# Altium footprint library SuperBot_PcbLib1.PcbLib: 44 footprints (part 2 of 3)
Each footprint in its own frame and in the unit in brackets; x right, y up, seen from the top. Pads: shape width x height; smd on the part's side, far side on the other; paste and mask are expansions set on the pad; w line width, h text height; cw(c..) or ccw(c..) is an arc to the next point about the centre after c.
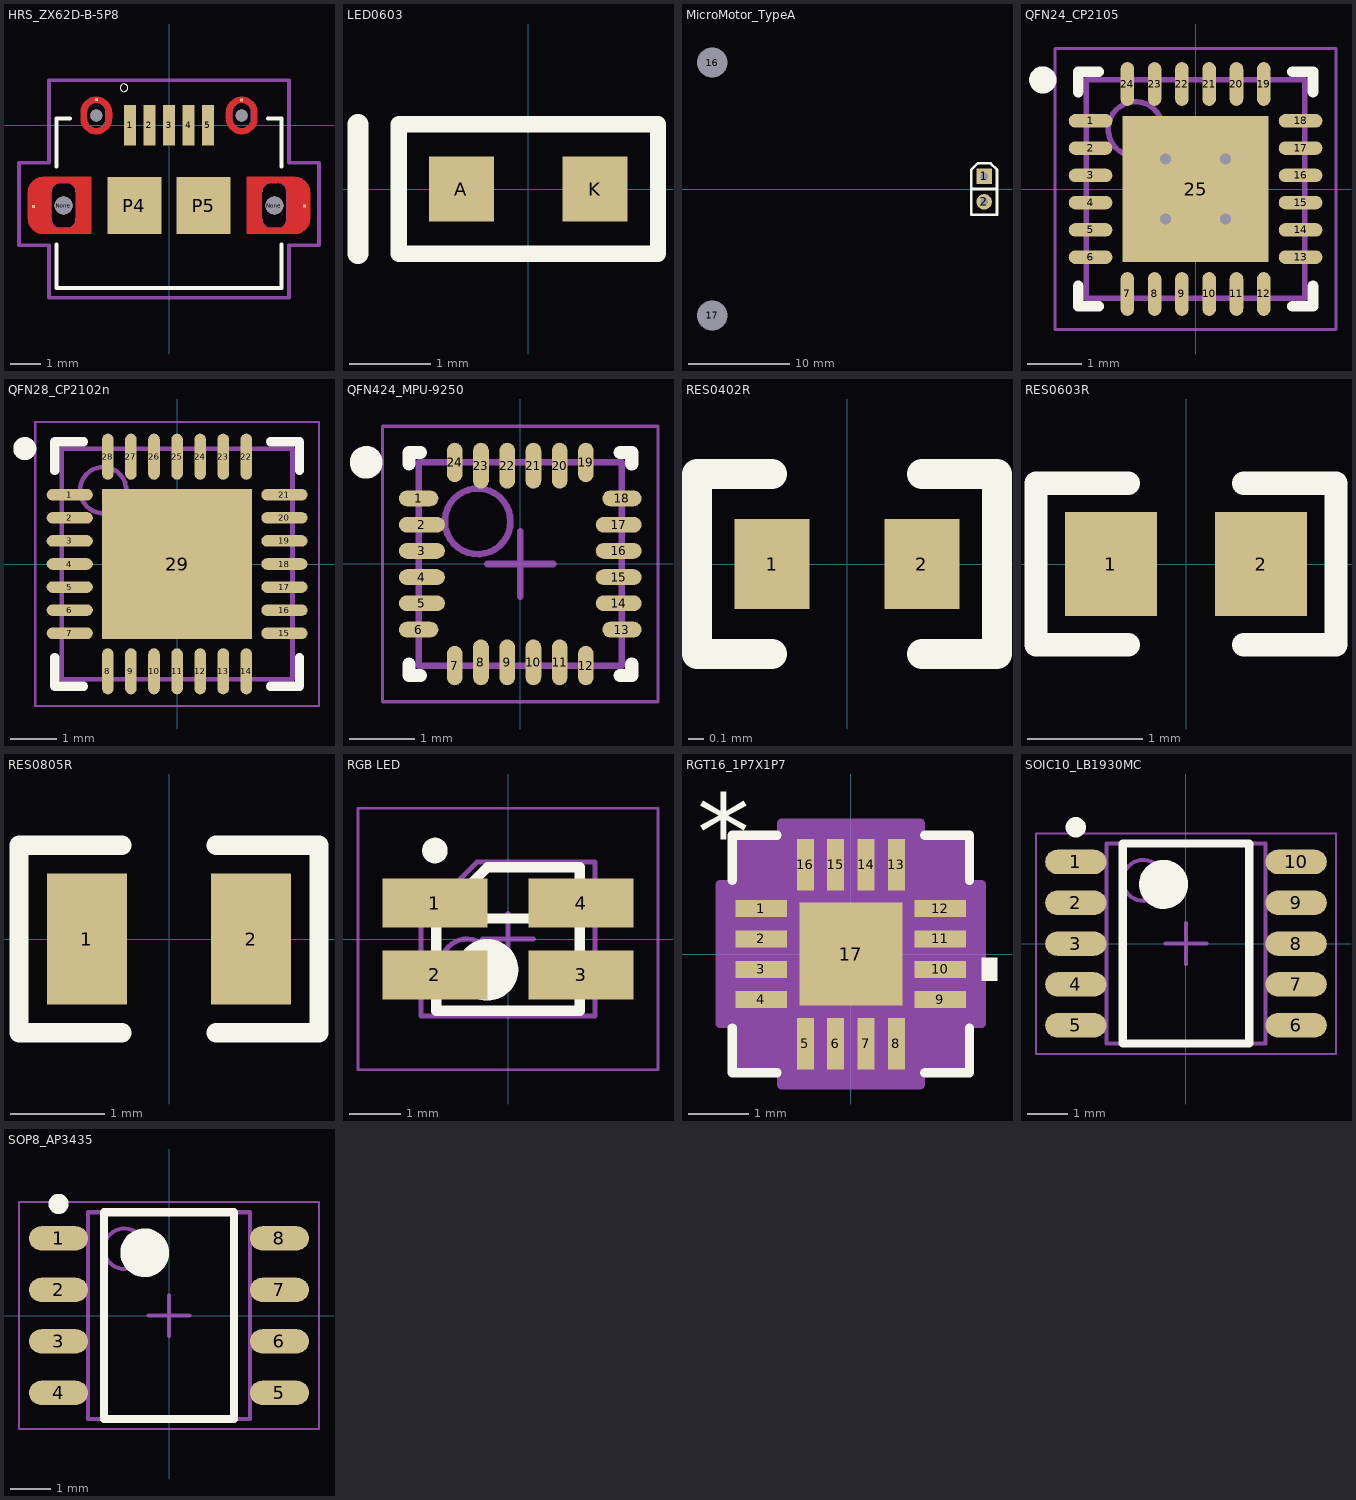
[diagram p1: the footprints below, top view; thin cyan lines are the x and y axes]

## HRS_ZX62D-B-5P8 [mm]
pads (15):
  rect 0.4x1.35 smd: 1(-1.3,0) 2(-0.65,0) 3(0,0) 4(0.65,0) 5(1.3,0)
  round 0.6 hole 0.6 unplated: None(-3.512,-2.675) None(3.512,-2.675)
  round 0.4 hole 0.4 unplated: None(-2.425,0.325) None(2.425,0.325)
  rect 0.1x0.1 smd: P1(-2.425,0.85) P2(2.425,0.837) P3(-4.513,-2.712) P6(4.513,-2.688)
  rect 1.8x1.9 smd: P4(-1.15,-2.675) P5(1.15,-2.675)
Top Layer:
  region: 3.1,-2.675 2.6,-2.675 2.6,-1.725 4.2,-1.725 4.213,-1.725 4.239,-1.726 4.265,-1.729 4.291,-1.733 4.317,-1.739 4.342,-1.745 4.367,-1.754 4.391,-1.763 4.415,-1.774 4.439,-1.785 4.461,-1.799 4.483,-1.813 4.504,-1.828 4.525,-1.845 4.544,-1.862 4.563,-1.881 4.58,-1.9 4.597,-1.921 4.612,-1.942 4.626,-1.964 4.64,-1.986 4.651,-2.01 4.662,-2.034 4.671,-2.058 4.68,-2.083 4.686,-2.108 4.692,-2.134 4.696,-2.16 4.699,-2.186 4.7,-2.212 4.7,-2.225 4.7,-2.675 3.925,-2.675 3.925,-2.2 3.925,-2.193 3.924,-2.178 3.923,-2.164 3.92,-2.15 3.917,-2.136 3.914,-2.122 3.909,-2.108 3.904,-2.095 3.898,-2.082 3.892,-2.069 3.885,-2.056 3.877,-2.044 3.868,-2.033 3.859,-2.021 3.85,-2.011 3.839,-2 3.829,-1.991 3.817,-1.982 3.806,-1.973 3.794,-1.965 3.781,-1.958 3.768,-1.952 3.755,-1.946 3.742,-1.941 3.728,-1.936 3.714,-1.933 3.7,-1.93 3.686,-1.927 3.672,-1.926 3.657,-1.925 3.65,-1.925 3.4,-1.925 3.392,-1.925 3.376,-1.926 3.361,-1.927 3.345,-1.93 3.33,-1.933 3.315,-1.937 3.3,-1.942 3.285,-1.948 3.271,-1.954 3.257,-1.961 3.243,-1.969 3.23,-1.978 3.217,-1.987 3.205,-1.997 3.193,-2.007 3.182,-2.018 3.172,-2.03 3.162,-2.042 3.153,-2.055 3.144,-2.068 3.136,-2.082 3.129,-2.096 3.123,-2.11 3.117,-2.125 3.112,-2.14 3.108,-2.155 3.105,-2.17 3.102,-2.186 3.101,-2.201 3.1,-2.217 3.1,-2.225
  region: -3.1,-2.675 -2.6,-2.675 -2.6,-3.625 -4.2,-3.625 -4.213,-3.625 -4.239,-3.624 -4.265,-3.621 -4.291,-3.617 -4.317,-3.611 -4.342,-3.605 -4.367,-3.596 -4.391,-3.587 -4.415,-3.576 -4.439,-3.565 -4.461,-3.551 -4.483,-3.537 -4.504,-3.522 -4.525,-3.505 -4.544,-3.488 -4.563,-3.469 -4.58,-3.45 -4.597,-3.429 -4.612,-3.408 -4.626,-3.386 -4.64,-3.364 -4.651,-3.34 -4.662,-3.316 -4.671,-3.292 -4.68,-3.267 -4.686,-3.242 -4.692,-3.216 -4.696,-3.19 -4.699,-3.164 -4.7,-3.138 -4.7,-3.125 -4.7,-2.675 -3.925,-2.675 -3.925,-3.15 -3.925,-3.157 -3.924,-3.172 -3.923,-3.186 -3.92,-3.2 -3.917,-3.214 -3.914,-3.228 -3.909,-3.242 -3.904,-3.255 -3.898,-3.268 -3.892,-3.281 -3.885,-3.294 -3.877,-3.306 -3.868,-3.317 -3.859,-3.329 -3.85,-3.339 -3.839,-3.35 -3.829,-3.359 -3.817,-3.368 -3.806,-3.377 -3.794,-3.385 -3.781,-3.392 -3.768,-3.398 -3.755,-3.404 -3.742,-3.409 -3.728,-3.414 -3.714,-3.417 -3.7,-3.42 -3.686,-3.423 -3.672,-3.424 -3.657,-3.425 -3.65,-3.425 -3.4,-3.425 -3.392,-3.425 -3.376,-3.424 -3.361,-3.423 -3.345,-3.42 -3.33,-3.417 -3.315,-3.413 -3.3,-3.408 -3.285,-3.402 -3.271,-3.396 -3.257,-3.389 -3.243,-3.381 -3.23,-3.372 -3.217,-3.363 -3.205,-3.353 -3.193,-3.343 -3.182,-3.332 -3.172,-3.32 -3.162,-3.308 -3.153,-3.295 -3.144,-3.282 -3.136,-3.268 -3.129,-3.254 -3.123,-3.24 -3.117,-3.225 -3.112,-3.21 -3.108,-3.195 -3.105,-3.18 -3.102,-3.164 -3.101,-3.149 -3.1,-3.133 -3.1,-3.125
  region: 2.6,-3.625 4.2,-3.625 4.213,-3.625 4.239,-3.624 4.265,-3.621 4.291,-3.617 4.317,-3.611 4.342,-3.605 4.367,-3.596 4.391,-3.587 4.415,-3.576 4.439,-3.565 4.461,-3.551 4.483,-3.537 4.504,-3.522 4.525,-3.505 4.544,-3.488 4.563,-3.469 4.58,-3.45 4.597,-3.429 4.612,-3.408 4.626,-3.386 4.64,-3.364 4.651,-3.34 4.662,-3.316 4.671,-3.292 4.68,-3.267 4.686,-3.242 4.692,-3.216 4.696,-3.19 4.699,-3.164 4.7,-3.138 4.7,-3.125 4.7,-2.675 3.925,-2.675 3.925,-3.125 3.925,-3.133 3.924,-3.149 3.923,-3.164 3.92,-3.18 3.917,-3.195 3.913,-3.21 3.908,-3.225 3.902,-3.24 3.896,-3.254 3.889,-3.268 3.881,-3.282 3.872,-3.295 3.863,-3.308 3.853,-3.32 3.843,-3.332 3.832,-3.343 3.82,-3.353 3.808,-3.363 3.795,-3.372 3.782,-3.381 3.768,-3.389 3.754,-3.396 3.74,-3.402 3.725,-3.408 3.71,-3.413 3.695,-3.417 3.68,-3.42 3.664,-3.423 3.649,-3.424 3.633,-3.425 3.625,-3.425 3.4,-3.425 3.392,-3.425 3.376,-3.424 3.361,-3.423 3.345,-3.42 3.33,-3.417 3.315,-3.413 3.3,-3.408 3.285,-3.402 3.271,-3.396 3.257,-3.389 3.243,-3.381 3.23,-3.372 3.217,-3.363 3.205,-3.353 3.193,-3.343 3.182,-3.332 3.172,-3.32 3.162,-3.308 3.153,-3.295 3.144,-3.282 3.136,-3.268 3.129,-3.254 3.123,-3.24 3.117,-3.225 3.112,-3.21 3.108,-3.195 3.105,-3.18 3.102,-3.164 3.101,-3.149 3.1,-3.133 3.1,-3.125 3.1,-2.675 2.6,-2.675
  region: -2.6,-1.725 -4.2,-1.725 -4.213,-1.725 -4.239,-1.726 -4.265,-1.729 -4.291,-1.733 -4.317,-1.739 -4.342,-1.745 -4.367,-1.754 -4.391,-1.763 -4.415,-1.774 -4.439,-1.785 -4.461,-1.799 -4.483,-1.813 -4.504,-1.828 -4.525,-1.845 -4.544,-1.862 -4.563,-1.881 -4.58,-1.9 -4.597,-1.921 -4.612,-1.942 -4.626,-1.964 -4.64,-1.986 -4.651,-2.01 -4.662,-2.034 -4.671,-2.058 -4.68,-2.083 -4.686,-2.108 -4.692,-2.134 -4.696,-2.16 -4.699,-2.186 -4.7,-2.212 -4.7,-2.225 -4.7,-2.675 -3.925,-2.675 -3.925,-2.225 -3.925,-2.217 -3.924,-2.201 -3.923,-2.186 -3.92,-2.17 -3.917,-2.155 -3.913,-2.14 -3.908,-2.125 -3.902,-2.11 -3.896,-2.096 -3.889,-2.082 -3.881,-2.068 -3.872,-2.055 -3.863,-2.042 -3.853,-2.03 -3.843,-2.018 -3.832,-2.007 -3.82,-1.997 -3.808,-1.987 -3.795,-1.978 -3.782,-1.969 -3.768,-1.961 -3.754,-1.954 -3.74,-1.948 -3.725,-1.942 -3.71,-1.937 -3.695,-1.933 -3.68,-1.93 -3.664,-1.927 -3.649,-1.926 -3.633,-1.925 -3.625,-1.925 -3.4,-1.925 -3.392,-1.925 -3.376,-1.926 -3.361,-1.927 -3.345,-1.93 -3.33,-1.933 -3.315,-1.937 -3.3,-1.942 -3.285,-1.948 -3.271,-1.954 -3.257,-1.961 -3.243,-1.969 -3.23,-1.978 -3.217,-1.987 -3.205,-1.997 -3.193,-2.007 -3.182,-2.018 -3.172,-2.03 -3.162,-2.042 -3.153,-2.055 -3.144,-2.068 -3.136,-2.082 -3.129,-2.096 -3.123,-2.11 -3.117,-2.125 -3.112,-2.14 -3.108,-2.155 -3.105,-2.17 -3.102,-2.186 -3.101,-2.201 -3.1,-2.217 -3.1,-2.225 -3.1,-2.675 -2.6,-2.675
  region: 2.425,-0.1 2.425,-0.3 2.411,-0.3 2.384,-0.299 2.356,-0.296 2.329,-0.291 2.302,-0.286 2.276,-0.279 2.25,-0.27 2.224,-0.26 2.199,-0.249 2.174,-0.237 2.151,-0.223 2.128,-0.208 2.105,-0.192 2.084,-0.174 2.063,-0.156 2.044,-0.137 2.026,-0.116 2.008,-0.095 1.992,-0.072 1.977,-0.049 1.963,-0.026 1.951,-0.001 1.94,0.024 1.93,0.05 1.921,0.076 1.914,0.102 1.909,0.129 1.904,0.156 1.901,0.184 1.9,0.211 1.9,0.225 1.9,0.425 1.9,0.439 1.901,0.466 1.904,0.494 1.909,0.521 1.914,0.548 1.921,0.574 1.93,0.6 1.94,0.626 1.951,0.651 1.963,0.676 1.977,0.699 1.992,0.722 2.008,0.745 2.026,0.766 2.044,0.787 2.063,0.806 2.084,0.824 2.105,0.842 2.128,0.858 2.151,0.873 2.174,0.887 2.199,0.899 2.224,0.91 2.25,0.92 2.276,0.929 2.302,0.936 2.329,0.941 2.356,0.946 2.384,0.949 2.411,0.95 2.425,0.95 2.425,0.75 2.416,0.75 2.399,0.749 2.383,0.747 2.366,0.745 2.349,0.741 2.333,0.737 2.316,0.731 2.301,0.725 2.285,0.718 2.27,0.711 2.255,0.702 2.241,0.693 2.227,0.683 2.214,0.672 2.201,0.661 2.189,0.649 2.178,0.636 2.167,0.623 2.157,0.609 2.148,0.595 2.139,0.58 2.132,0.565 2.125,0.549 2.119,0.534 2.113,0.517 2.109,0.501 2.105,0.484 2.103,0.467 2.101,0.451 2.1,0.434 2.1,0.425 2.1,0.225 2.1,0.216 2.101,0.199 2.103,0.183 2.105,0.166 2.109,0.149 2.113,0.133 2.119,0.116 2.125,0.101 2.132,0.085 2.139,0.07 2.148,0.055 2.157,0.041 2.167,0.027 2.178,0.014 2.189,0.001 2.201,-0.011 2.214,-0.022 2.227,-0.033 2.241,-0.043 2.255,-0.052 2.27,-0.061 2.285,-0.068 2.301,-0.075 2.316,-0.081 2.333,-0.087 2.349,-0.091 2.366,-0.095 2.383,-0.097 2.399,-0.099 2.416,-0.1
  region: 2.425,0.75 2.425,0.95 2.439,0.95 2.466,0.949 2.494,0.946 2.521,0.941 2.548,0.936 2.574,0.929 2.6,0.92 2.626,0.91 2.651,0.899 2.676,0.887 2.699,0.873 2.722,0.858 2.745,0.842 2.766,0.824 2.787,0.806 2.806,0.787 2.824,0.766 2.842,0.745 2.858,0.722 2.873,0.699 2.887,0.676 2.899,0.651 2.91,0.626 2.92,0.6 2.929,0.574 2.936,0.548 2.941,0.521 2.946,0.494 2.949,0.466 2.95,0.439 2.95,0.425 2.95,0.225 2.95,0.211 2.949,0.184 2.946,0.156 2.941,0.129 2.936,0.102 2.929,0.076 2.92,0.05 2.91,0.024 2.899,-0.001 2.887,-0.026 2.873,-0.049 2.858,-0.072 2.842,-0.095 2.824,-0.116 2.806,-0.137 2.787,-0.156 2.766,-0.174 2.745,-0.192 2.722,-0.208 2.699,-0.223 2.676,-0.237 2.651,-0.249 2.626,-0.26 2.6,-0.27 2.574,-0.279 2.548,-0.286 2.521,-0.291 2.494,-0.296 2.466,-0.299 2.439,-0.3 2.425,-0.3 2.425,-0.1 2.434,-0.1 2.451,-0.099 2.467,-0.097 2.484,-0.095 2.501,-0.091 2.517,-0.087 2.534,-0.081 2.549,-0.075 2.565,-0.068 2.58,-0.061 2.595,-0.052 2.609,-0.043 2.623,-0.033 2.636,-0.022 2.649,-0.011 2.661,0.001 2.672,0.014 2.683,0.027 2.693,0.041 2.702,0.055 2.711,0.07 2.718,0.085 2.725,0.101 2.731,0.116 2.737,0.133 2.741,0.149 2.745,0.166 2.747,0.183 2.749,0.199 2.75,0.216 2.75,0.225 2.75,0.425 2.75,0.434 2.749,0.451 2.747,0.467 2.745,0.484 2.741,0.501 2.737,0.517 2.731,0.534 2.725,0.549 2.718,0.565 2.711,0.58 2.702,0.595 2.693,0.609 2.683,0.623 2.672,0.636 2.661,0.649 2.649,0.661 2.636,0.672 2.623,0.683 2.609,0.693 2.595,0.702 2.58,0.711 2.565,0.718 2.549,0.725 2.534,0.731 2.517,0.737 2.501,0.741 2.484,0.745 2.467,0.747 2.451,0.749 2.434,0.75
  region: -2.425,-0.1 -2.425,-0.3 -2.439,-0.3 -2.466,-0.299 -2.494,-0.296 -2.521,-0.291 -2.548,-0.286 -2.574,-0.279 -2.6,-0.27 -2.626,-0.26 -2.651,-0.249 -2.676,-0.237 -2.699,-0.223 -2.722,-0.208 -2.745,-0.192 -2.766,-0.174 -2.787,-0.156 -2.806,-0.137 -2.824,-0.116 -2.842,-0.095 -2.858,-0.072 -2.873,-0.049 -2.887,-0.026 -2.899,-0.001 -2.91,0.024 -2.92,0.05 -2.929,0.076 -2.936,0.102 -2.941,0.129 -2.946,0.156 -2.949,0.184 -2.95,0.211 -2.95,0.225 -2.95,0.425 -2.95,0.439 -2.949,0.466 -2.946,0.494 -2.941,0.521 -2.936,0.548 -2.929,0.574 -2.92,0.6 -2.91,0.626 -2.899,0.651 -2.887,0.676 -2.873,0.699 -2.858,0.722 -2.842,0.745 -2.824,0.766 -2.806,0.787 -2.787,0.806 -2.766,0.824 -2.745,0.842 -2.722,0.858 -2.699,0.873 -2.676,0.887 -2.651,0.899 -2.626,0.91 -2.6,0.92 -2.574,0.929 -2.548,0.936 -2.521,0.941 -2.494,0.946 -2.466,0.949 -2.439,0.95 -2.425,0.95 -2.425,0.75 -2.434,0.75 -2.451,0.749 -2.467,0.747 -2.484,0.745 -2.501,0.741 -2.517,0.737 -2.534,0.731 -2.549,0.725 -2.565,0.718 -2.58,0.711 -2.595,0.702 -2.609,0.693 -2.623,0.683 -2.636,0.672 -2.649,0.661 -2.661,0.649 -2.672,0.636 -2.683,0.623 -2.693,0.609 -2.702,0.595 -2.711,0.58 -2.718,0.565 -2.725,0.549 -2.731,0.534 -2.737,0.517 -2.741,0.501 -2.745,0.484 -2.747,0.467 -2.749,0.451 -2.75,0.434 -2.75,0.425 -2.75,0.225 -2.75,0.216 -2.749,0.199 -2.747,0.183 -2.745,0.166 -2.741,0.149 -2.737,0.133 -2.731,0.116 -2.725,0.101 -2.718,0.085 -2.711,0.07 -2.702,0.055 -2.693,0.041 -2.683,0.027 -2.672,0.014 -2.661,0.001 -2.649,-0.011 -2.636,-0.022 -2.623,-0.033 -2.609,-0.043 -2.595,-0.052 -2.58,-0.061 -2.565,-0.068 -2.549,-0.075 -2.534,-0.081 -2.517,-0.087 -2.501,-0.091 -2.484,-0.095 -2.467,-0.097 -2.451,-0.099 -2.434,-0.1
  region: -2.425,0.75 -2.425,0.95 -2.411,0.95 -2.384,0.949 -2.356,0.946 -2.329,0.941 -2.302,0.936 -2.276,0.929 -2.25,0.92 -2.224,0.91 -2.199,0.899 -2.174,0.887 -2.151,0.873 -2.128,0.858 -2.105,0.842 -2.084,0.824 -2.063,0.806 -2.044,0.787 -2.026,0.766 -2.008,0.745 -1.992,0.722 -1.977,0.699 -1.963,0.676 -1.951,0.651 -1.94,0.626 -1.93,0.6 -1.921,0.574 -1.914,0.548 -1.909,0.521 -1.904,0.494 -1.901,0.466 -1.9,0.439 -1.9,0.425 -1.9,0.225 -1.9,0.211 -1.901,0.184 -1.904,0.156 -1.909,0.129 -1.914,0.102 -1.921,0.076 -1.93,0.05 -1.94,0.024 -1.951,-0.001 -1.963,-0.026 -1.977,-0.049 -1.992,-0.072 -2.008,-0.095 -2.026,-0.116 -2.044,-0.137 -2.063,-0.156 -2.084,-0.174 -2.105,-0.192 -2.128,-0.208 -2.151,-0.223 -2.174,-0.237 -2.199,-0.249 -2.224,-0.26 -2.25,-0.27 -2.276,-0.279 -2.302,-0.286 -2.329,-0.291 -2.356,-0.296 -2.384,-0.299 -2.411,-0.3 -2.425,-0.3 -2.425,-0.1 -2.416,-0.1 -2.399,-0.099 -2.383,-0.097 -2.366,-0.095 -2.349,-0.091 -2.333,-0.087 -2.316,-0.081 -2.301,-0.075 -2.285,-0.068 -2.27,-0.061 -2.255,-0.052 -2.241,-0.043 -2.227,-0.033 -2.214,-0.022 -2.201,-0.011 -2.189,0.001 -2.178,0.014 -2.167,0.027 -2.157,0.041 -2.148,0.055 -2.139,0.07 -2.132,0.085 -2.125,0.101 -2.119,0.116 -2.113,0.133 -2.109,0.149 -2.105,0.166 -2.103,0.183 -2.101,0.199 -2.1,0.216 -2.1,0.225 -2.1,0.425 -2.1,0.434 -2.101,0.451 -2.103,0.467 -2.105,0.484 -2.109,0.501 -2.113,0.517 -2.119,0.534 -2.125,0.549 -2.132,0.565 -2.139,0.58 -2.148,0.595 -2.157,0.609 -2.167,0.623 -2.178,0.636 -2.189,0.649 -2.201,0.661 -2.214,0.672 -2.227,0.683 -2.241,0.693 -2.255,0.702 -2.27,0.711 -2.285,0.718 -2.301,0.725 -2.316,0.731 -2.333,0.737 -2.349,0.741 -2.366,0.745 -2.383,0.747 -2.399,0.749 -2.416,0.75
Top Overlay:
  circle w0: c-1.5,1.25 r0.127
  lines w0.127: -3.75,-3.975 -3.75,-5.425 3.75,-5.425 3.75,-3.975 ; -3.75,-1.375 -3.75,0.225 -3.3,0.225 ; 3.3,0.225 3.75,0.225 3.75,-1.375
Top Paste:
  drawing of 8 lines, arcs and shapes, not listed
Top Solder:
  region: 2.504,-1.625 4.8,-1.625 4.8,-3.73 2.504,-3.73
  region: -4.804,-1.625 -2.5,-1.625 -2.5,-3.728 -4.804,-3.728
  region: 1.804,1.05 3.05,1.05 3.05,-0.401 1.804,-0.401
  region: -3.055,1.05 -1.8,1.05 -1.8,-0.401 -3.055,-0.401
Mechanical 1:
  lines w0.01: -3.925,-3.125 ccw(c-3.625,-3.125) -3.625,-3.425 -3.4,-3.425 ccw(c-3.4,-3.125) -3.1,-3.125 -3.1,-2.225 ccw(c-3.4,-2.225) -3.4,-1.925 -3.625,-1.925 ccw(c-3.625,-2.225) -3.925,-2.225 -3.925,-3.125 ; -2.75,0.225 ccw(c-2.425,0.225) -2.425,-0.1 ccw(c-2.425,0.225) -2.1,0.225 -2.1,0.425 ccw(c-2.425,0.425) -2.425,0.75 ccw(c-2.425,0.425) -2.75,0.425 -2.75,0.225 ; 2.1,0.225 ccw(c2.425,0.225) 2.425,-0.1 ccw(c2.425,0.225) 2.75,0.225 2.75,0.425 ccw(c2.425,0.425) 2.425,0.75 ccw(c2.425,0.425) 2.1,0.425 2.1,0.225 ; 3.1,-3.125 ccw(c3.4,-3.125) 3.4,-3.425 3.625,-3.425 ccw(c3.625,-3.125) 3.925,-3.125 3.925,-2.225 ccw(c3.625,-2.225) 3.625,-1.925 3.4,-1.925 ccw(c3.4,-2.225) 3.1,-2.225 3.1,-3.125
  lines w0.127: -5,-4 -4,-4 -4,-5.75 4,-5.75 4,-4 5,-4 5,-1.25 4,-1.25 4,1.5 -4,1.5 -4,-1.25 -5,-1.25 -5,-4

## LED0603 [mm] "ROHM LED 0603 SML-D12x1 Series"
pads (2):
  rect 0.8x0.8 smd: A(-0.825,0) K(0.825,0)
Top Overlay:
  lines w0.203: -1.6,-0.8 -1.6,0.8 1.6,0.8 1.6,-0.8 -1.6,-0.8
  lines w0.254: -2.1,-0.8 -2.1,0.8
3D body: height 0.18, standoff 0, extent -0.8,-0.4 -0.6,0.4
3D body: height 0.18, standoff 0, extent 0.6,-0.4 0.8,0.4
3D body: height 0.55, standoff 0, extent -0.6,-0.4 0.6,0.4

## MicroMotor_TypeA [mil]
pads (4):
  rect 60x60 hole 30: 1(1590,50)
  round 60 hole 30: 2(1590,-50)
  round 60 hole 118.11 unplated: 16(531.5,492.13) 17(531.5,-492.13)
Top Overlay:
  lines w10: 1540,0 1640,0 ; 1640,0 1640,75 1615,100 1565,100 1540,75 1540,-100 1640,-100 1640,0
3D body: height 98.43, standoff 0, extent 1540,0 1640.01,100
3D body: height 334.65, standoff -118.11, extent 1577.31,37.23 1602.8,62.77
3D body: height 98.43, standoff 0, extent 1540,-100 1640.01,0
3D body: height 334.65, standoff -118.11, extent 1577.31,-62.77 1602.8,-37.23
3D body "Pololu - 1_250 Micro gear motor.STEP": height 433.07, standoff 39.37, extent 0.44,-237.72 1389.02,234.72
3D body: height 590.55, standoff 39.37, extent 374.02,236.22 688.98,354.33
3D body: height 590.55, standoff 39.37, extent 374.02,-393.7 688.98,-236.22
3D body: height 590.55, standoff 472.44, extent 374.02,-236.22 688.98,236.22
3D body: height 196.85, standoff 39.37, extent 374.02,354.33 688.98,610.24
3D body: height 196.85, standoff 39.37, extent 374.02,-649.61 688.98,-393.7

## PCBComponent_1 - duplicate [mm]

## PCBComponent_1 - duplicate1 [mm]

## PCBComponent_1 - duplicate2 [mm]

## QFN24_CP2105 [mm] "QFN, 24-Leads, Body 4.00x4.00mm, Pitch 0.50mm, Thermal Pad 2.68x2.68mm, IPC Medium Density"
height 0.8
pads (25):
  oval 0.8x0.25 smd: 1(-1.925,1.25) 2(-1.925,0.75) 3(-1.925,0.25) 4(-1.925,-0.25) 5(-1.925,-0.75) 6(-1.925,-1.25) 13(1.925,-1.25) 14(1.925,-0.75) 15(1.925,-0.25) 16(1.925,0.25) 17(1.925,0.75) 18(1.925,1.25)
  oval 0.25x0.8 smd: 7(-1.25,-1.925) 8(-0.75,-1.925) 9(-0.25,-1.925) 10(0.25,-1.925) 11(0.75,-1.925) 12(1.25,-1.925) 19(1.25,1.925) 20(0.75,1.925) 21(0.25,1.925) 22(-0.25,1.925) 23(-0.75,1.925) 24(-1.25,1.925)
  rect 2.68x2.68 smd: 25(0,0)
via -0.55,0.55 diameter 0.5 hole 0.2
via 0.55,0.55 diameter 0.5 hole 0.2
via -0.55,-0.55 diameter 0.5 hole 0.2
via 0.55,-0.55 diameter 0.5 hole 0.2
Top Overlay:
  circle w0.25: c-2.8,2 r0.125
  lines w0.2: -2.15,-1.775 -2.15,-2.15 -1.775,-2.15 ; -2.15,1.775 -2.15,2.15 -1.775,2.15 ; 1.775,-2.15 2.15,-2.15 2.15,-1.775 ; 1.775,2.15 2.15,2.15 2.15,1.775
Mechanical 13:
  circle w0.1: c-1.1,1.1 r0.5
  lines w0.1: -2,-2 -2,2 2,2 2,-2 -2,-2
Mechanical 15:
  lines w0.05: -2.575,-2.575 -2.575,2.575 2.575,2.575 2.575,-2.575 -2.575,-2.575
  lines w0.1: -0.5,0 0.5,0 ; 0,-0.5 0,0.5
3D body "QFN24_CP2105.step": height 0.8, standoff 0, extent -2.02,-2.02 2.02,2.02

## QFN28_CP2102n [mm] "Medium 5mm"
height 0.8
pads (29):
  oval 1x0.25 smd: 1(-2.325,1.5) 2(-2.325,1) 3(-2.325,0.5) 4(-2.325,0) 5(-2.325,-0.5) 6(-2.325,-1) 7(-2.325,-1.5) 15(2.325,-1.5) 16(2.325,-1) 17(2.325,-0.5) 18(2.325,0) 19(2.325,0.5) 20(2.325,1) 21(2.325,1.5)
  oval 0.25x1 smd: 8(-1.5,-2.325) 9(-1,-2.325) 10(-0.5,-2.325) 11(0,-2.325) 12(0.5,-2.325) 13(1,-2.325) 14(1.5,-2.325) 22(1.5,2.325) 23(1,2.325) 24(0.5,2.325) 25(0,2.325) 26(-0.5,2.325) 27(-1,2.325) 28(-1.5,2.325)
  rect 3.25x3.25 smd: 29(0,0)
Top Overlay:
  circle w0.25: c-3.3,2.5 r0.125
  lines w0.2: -2.65,-2.025 -2.65,-2.65 -2.025,-2.65 ; -2.65,2.025 -2.65,2.65 -2.025,2.65 ; 2.025,-2.65 2.65,-2.65 2.65,-2.025 ; 2.025,2.65 2.65,2.65 2.65,2.025
Mechanical 13:
  circle w0.1: c-1.6,1.6 r0.5
  lines w0.1: -2.5,-2.5 2.5,-2.5 2.5,2.5 -2.5,2.5 -2.5,-2.5
Mechanical 15:
  lines w0.05: -3.075,-3.075 3.075,-3.075 3.075,3.075 -3.075,3.075 -3.075,-3.075
  lines w0.1: -0.5,0 0.5,0 ; 0,-0.5 0,0.5
3D body "QFN127P600-8N.step": height 0.8, standoff 0, extent -2.55,-2.55 2.55,2.55

## QFN424_MPU-9250 [mm] "QFN, 24-Leads, Body 3.00x3.00mm, Pitch 0.40mm, Thermal Pad 1.70x1.54mm, IPC Medium Density"
height 1.05
pads (24):
  oval 0.6x0.24 smd: 1(-1.55,1) 6(-1.55,-1) 13(1.55,-1) 18(1.55,1)
  oval 0.7x0.24 smd: 2(-1.5,0.6) 3(-1.5,0.2) 4(-1.5,-0.2) 5(-1.5,-0.6) 14(1.5,-0.6) 15(1.5,-0.2) 16(1.5,0.2) 17(1.5,0.6)
  oval 0.24x0.6 smd: 7(-1,-1.55) 12(1,-1.55) 19(1,1.55) 24(-1,1.55)
  oval 0.24x0.7 smd: 8(-0.6,-1.5) 9(-0.2,-1.5) 10(0.2,-1.5) 11(0.6,-1.5) 20(0.6,1.5) 21(0.2,1.5) 22(-0.2,1.5) 23(-0.6,1.5)
Top Overlay:
  circle w0.25: c-2.35,1.55 r0.125
  lines w0.2: -1.7,-1.525 -1.7,-1.7 -1.525,-1.7 ; -1.7,1.525 -1.7,1.7 -1.525,1.7 ; 1.525,-1.7 1.7,-1.7 1.7,-1.525 ; 1.525,1.7 1.7,1.7 1.7,1.525
Mechanical 13:
  circle w0.1: c-0.65,0.65 r0.5
  lines w0.1: -1.55,-1.55 -1.55,1.55 1.55,1.55 1.55,-1.55 -1.55,-1.55
Mechanical 15:
  lines w0.05: -2.1,-2.1 -2.1,2.1 2.1,2.1 2.1,-2.1 -2.1,-2.1
  lines w0.1: -0.5,0 0.5,0 ; 0,-0.5 0,0.5
3D body "QFN424_MPU-9250.step": height 1.05, standoff 0, extent -1.6,-1.6 1.6,1.6

## RES0402R [mm] "resistor 0402 reflow soldering"
pads (2):
  rect 0.5x0.6 smd: 1(-0.5,0) 2(0.5,0)
Top Overlay:
  lines w0.203: -0.5,-0.6 -1,-0.6 -1,0.6 -0.5,0.6 ; 0.5,-0.6 1,-0.6 1,0.6 0.5,0.6
3D body "RES0402.stp": height 0.3, standoff 0, extent -0.5,-0.25 0.5,0.25

## RES0603R [mm] "resistor 0603 reflow soldering"
pads (2):
  rect 0.8x0.9 smd: 1(-0.65,0) 2(0.65,0)
Top Overlay:
  lines w0.203: -0.5,-0.7 -1.3,-0.7 -1.3,0.7 -0.5,0.7 ; 0.5,-0.7 1.3,-0.7 1.3,0.7 0.5,0.7
3D body "res0603.stp": height 0.45, standoff 0, extent -0.8,-0.4 0.8,0.4

## RES0805R [mm] "resistor 0805 reflow soldering"
pads (2):
  rect 0.85x1.4 smd: 1(-0.875,0) 2(0.875,0)
Top Overlay:
  lines w0.203: -0.5,-1 -1.6,-1 -1.6,1 -0.5,1 ; 0.5,-1 1.6,-1 1.6,1 0.5,1
3D body "RES0805.stp": height 0.5, standoff 0, extent -1,-0.625 1,0.625

## RGB LED [mm] "Leaded Chip Carrier, 6-Leads, Body 3.55x2.80mm, Pitch 1.400mm, IPC Low Density"
height 2.1
pads (4):
  rect 2.05x0.95 smd: 1(-1.425,0.7) 2(-1.425,-0.7) 3(1.425,-0.7) 4(1.425,0.7)
Top Overlay:
  circle w0.25: c-1.425,1.725 r0.125
  circle w0.6: c-0.4,-0.6 r0.3
  lines w0.2: 1.4,0.4 -1.4,0.4 ; -1.4,0.4 -0.4,1.4 1.4,1.4 1.4,-1.4 -1.4,-1.4 -1.4,0.4
Mechanical 13:
  circle w0.1: c-0.8,-0.5 r0.5
  lines w0.1: 1.7,0.4 -1.7,0.4 ; -1.7,0.4 -1.7,-1.5 1.7,-1.5 1.7,1.5 -0.6,1.5 -1.7,0.4
Mechanical 15:
  lines w0.05: -2.925,-2.55 -2.925,2.55 2.925,2.55 2.925,-2.55 -2.925,-2.55
  lines w0.1: -0.5,0 0.5,0 ; 0,-0.5 0,0.5
3D body: height 2.1, standoff 1, extent -1.7,-1.5 1.7,1.5

## RGT16_1P7X1P7 [mm]
pads (17):
  rect 0.85x0.28 smd paste-0.14 mask+0: 1(-1.475,0.75) 2(-1.475,0.25) 3(-1.475,-0.25) 4(-1.475,-0.75) 9(1.475,-0.75) 10(1.475,-0.25) 11(1.475,0.25) 12(1.475,0.75)
  rect 0.28x0.85 smd paste-0.14 mask+0: 5(-0.75,-1.475) 6(-0.25,-1.475) 7(0.25,-1.475) 8(0.75,-1.475) 13(0.75,1.475) 14(0.25,1.475) 15(-0.25,1.475) 16(-0.75,1.475)
  rect 1.7x1.7 smd paste-0.837 mask-0.838: 17(0,0)
Top Overlay:
  region: 2.154,-0.059 2.408,-0.059 2.408,-0.44 2.154,-0.44
  lines w0.152: -1.956,-1.218 -1.956,-1.956 -1.218,-1.956 ; -1.956,1.218 -1.956,1.956 -1.218,1.956 ; 1.218,-1.956 1.956,-1.956 1.956,-1.218 ; 1.218,1.956 1.956,1.956 1.956,1.218
  text "*" at -2.535,1.381 h1.27
Top Paste:
  region: -1.075,0.865 -1.875,0.865 -1.875,0.635 -1.075,0.635
  region: -1.075,0.365 -1.875,0.365 -1.875,0.135 -1.075,0.135
  region: -1.075,-0.135 -1.875,-0.135 -1.875,-0.365 -1.075,-0.365
  region: -1.075,-0.635 -1.875,-0.635 -1.875,-0.865 -1.075,-0.865
  region: -0.635,-1.075 -0.865,-1.075 -0.865,-1.875 -0.635,-1.875
  region: -0.135,-1.075 -0.365,-1.075 -0.365,-1.875 -0.135,-1.875
  region: 0.365,-1.075 0.135,-1.075 0.135,-1.875 0.365,-1.875
  region: 0.865,-1.075 0.635,-1.075 0.635,-1.875 0.865,-1.875
  region: 1.875,-0.635 1.075,-0.635 1.075,-0.865 1.875,-0.865
  region: 1.875,-0.135 1.075,-0.135 1.075,-0.365 1.875,-0.365
  region: 1.875,0.365 1.075,0.365 1.075,0.135 1.875,0.135
  region: 1.875,0.865 1.075,0.865 1.075,0.635 1.875,0.635
  region: 0.865,1.875 0.635,1.875 0.635,1.075 0.865,1.075
  region: 0.365,1.875 0.135,1.875 0.135,1.075 0.365,1.075
  region: -0.135,1.875 -0.365,1.875 -0.365,1.075 -0.135,1.075
  region: -0.635,1.875 -0.865,1.875 -0.865,1.075 -0.635,1.075
  region: -0.494,0.775 -0.775,0.775 -0.775,0.494 -0.635,0.494 -0.494,0.635
  region: -0.635,0.294 -0.775,0.294 -0.775,-0.294 -0.635,-0.294 -0.494,-0.152 -0.494,0.152
  region: -0.635,-0.494 -0.775,-0.494 -0.775,-0.775 -0.494,-0.775 -0.494,-0.635
  region: 0.294,0.775 -0.294,0.775 -0.294,0.635 -0.152,0.494 0.152,0.494 0.294,0.635
  region: 0.152,0.294 -0.152,0.294 -0.294,0.152 -0.294,-0.152 -0.152,-0.294 0.152,-0.294 0.294,-0.152 0.294,0.152
  region: 0.152,-0.494 -0.152,-0.494 -0.294,-0.635 -0.294,-0.775 0.294,-0.775 0.294,-0.635
  region: 0.775,0.775 0.494,0.775 0.494,0.635 0.635,0.494 0.775,0.494
  region: 0.775,0.294 0.635,0.294 0.494,0.152 0.494,-0.152 0.635,-0.294 0.775,-0.294
  region: 0.775,-0.494 0.635,-0.494 0.494,-0.635 0.494,-0.775 0.775,-0.775
Top Solder:
  region: -0.98,0.96 -1.97,0.96 -1.97,0.54 -0.98,0.54
  region: -0.98,0.46 -1.97,0.46 -1.97,0.04 -0.98,0.04
  region: -0.98,-0.04 -1.97,-0.04 -1.97,-0.46 -0.98,-0.46
  region: -0.98,-0.54 -1.97,-0.54 -1.97,-0.96 -0.98,-0.96
  region: -0.541,-0.98 -0.96,-0.98 -0.96,-1.97 -0.541,-1.97
  region: -0.04,-0.98 -0.46,-0.98 -0.46,-1.97 -0.04,-1.97
  region: 0.46,-0.98 0.04,-0.98 0.04,-1.97 0.46,-1.97
  region: 0.96,-0.98 0.541,-0.98 0.541,-1.97 0.96,-1.97
  region: 1.97,-0.54 0.98,-0.54 0.98,-0.96 1.97,-0.96
  region: 1.97,-0.04 0.98,-0.04 0.98,-0.46 1.97,-0.46
  region: 1.97,0.46 0.98,0.46 0.98,0.04 1.97,0.04
  region: 1.97,0.96 0.98,0.96 0.98,0.54 1.97,0.54
  region: 0.96,1.97 0.541,1.97 0.541,0.98 0.96,0.98
  region: 0.46,1.97 0.04,1.97 0.04,0.98 0.46,0.98
  region: -0.04,1.97 -0.46,1.97 -0.46,0.98 -0.04,0.98
  region: -0.541,1.97 -0.96,1.97 -0.96,0.98 -0.541,0.98
  region: -0.914,0.594 -0.914,0.914 0.914,0.914 0.914,0.594
  region: -0.914,-0.194 -0.914,0.194 0.914,0.194 0.914,-0.194
  region: -0.914,-0.914 -0.914,-0.594 0.914,-0.594 0.914,-0.914
  region: -0.914,-0.914 -0.914,0.914 -0.594,0.914 -0.594,-0.914
  region: 0.194,-0.914 0.194,0.914 -0.194,0.914 -0.194,-0.914
  region: 0.594,-0.914 0.594,0.914 0.914,0.914 0.914,-0.914
Mechanical 13:
  lines w0.025: -1.575,0.305 -0.305,1.575 ; -1.575,-1.575 1.575,-1.575 1.575,1.575 -1.575,1.575 -1.575,-1.575
  text "*" at -0.796,1 h1.27
Mechanical 15:
  region: -1.144,-1.829 -1.829,-1.829 -1.829,-1.144 -2.154,-1.144 -2.154,1.144 -1.829,1.144 -1.829,1.829 -1.144,1.829 -1.144,2.154 1.144,2.154 1.144,1.829 1.829,1.829 1.829,1.144 2.154,1.144 2.154,-1.144 1.829,-1.144 1.829,-1.829 1.144,-1.829 1.144,-2.154 -1.144,-2.154
  lines w0.152: -2.154,-1.144 -1.829,-1.144 -1.829,-1.829 -1.144,-1.829 -1.144,-2.154 1.144,-2.154 1.144,-1.829 1.829,-1.829 1.829,-1.144 2.154,-1.144 2.154,1.144 1.829,1.144 1.829,1.829 1.144,1.829 1.144,2.154 -1.144,2.154 -1.144,1.829 -1.829,1.829 -1.829,1.144 -2.154,1.144 -2.154,-1.144
Mechanical 16:
  circle w0.127: c-0.394,-0.394 r0.191
  circle w0.127: c-0.394,0.394 r0.191
  circle w0.127: c0.394,-0.394 r0.191
  circle w0.127: c0.394,0.394 r0.191
3D body: height 0.25, standoff 0, extent 0,0 0.254,0.254

## SOIC10_LB1930MC [mm] "SOP, 10-Leads, Body 4.90x3.90mm, Pitch 1.00mm, IPC Medium Density"
height 1.75
pads (10):
  oval 1.5x0.6 smd: 1(-2.7,2) 2(-2.7,1) 3(-2.7,0) 4(-2.7,-1) 5(-2.7,-2) 6(2.7,-2) 7(2.7,-1) 8(2.7,0) 9(2.7,1) 10(2.7,2)
Top Overlay:
  circle w0.25: c-2.7,2.85 r0.125
  circle w0.6: c-0.55,1.45 r0.3
  lines w0.2: -1.55,-2.45 -1.55,2.45 1.55,2.45 1.55,-2.45 -1.55,-2.45
Mechanical 13:
  circle w0.1: c-1.05,1.55 r0.5
  lines w0.1: -1.95,-2.45 -1.95,2.45 1.95,2.45 1.95,-2.45 -1.95,-2.45
Mechanical 15:
  lines w0.05: -3.675,-2.7 -3.675,2.7 3.675,2.7 3.675,-2.7 -3.675,-2.7
  lines w0.1: -0.5,0 0.5,0 ; 0,-0.5 0,0.5
3D body "SOIC10_LB1930MC.step": height 1.75, standoff 0, extent -3,-2.45 3,2.45

## SOP8_AP3435 [mm] "SOP, 8-Leads, Body 4.90x3.90mm, Pitch 1.27mm, IPC Medium Density"
height 1.75
pads (8):
  oval 1.45x0.6 smd: 1(-2.725,1.905) 2(-2.725,0.635) 3(-2.725,-0.635) 4(-2.725,-1.905) 5(2.725,-1.905) 6(2.725,-0.635) 7(2.725,0.635) 8(2.725,1.905)
Top Overlay:
  circle w0.25: c-2.725,2.755 r0.125
  circle w0.6: c-0.6,1.55 r0.3
  lines w0.2: -1.6,-2.55 -1.6,2.55 1.6,2.55 1.6,-2.55 -1.6,-2.55
Mechanical 13:
  circle w0.1: c-1.1,1.65 r0.5
  lines w0.1: -2,-2.55 -2,2.55 2,2.55 2,-2.55 -2,-2.55
Mechanical 15:
  lines w0.05: -3.7,-2.8 -3.7,2.8 3.7,2.8 3.7,-2.8 -3.7,-2.8
  lines w0.1: -0.5,0 0.5,0 ; 0,-0.5 0,0.5
3D body "SOP8_AP3435.step": height 1.75, standoff 0, extent -3,-2.55 3,2.55